# EAGLE library part DIN8 (library ScouseTom_New)
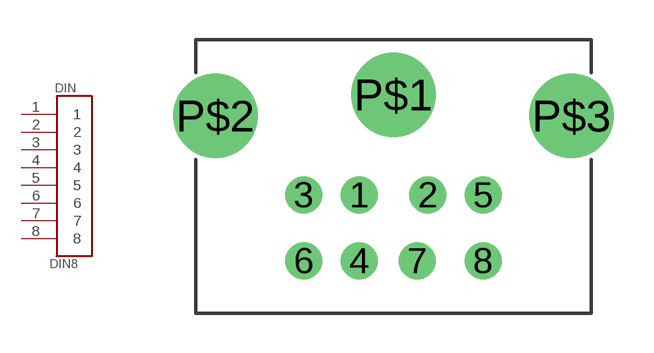
[diagram p7: symbol with the pads of DIN8; footprint DIN8]

Designator prefix DIN

## DIN8  [DIN8]
1  1
2  2
3  3
4  4
5  5
6  6
7  7
8  8

## Footprint DIN8 (pad centres in mm)
drill 0.9: 1 -1.3,-3.8; 2 1.3,-3.8; 3 -3.4,-3.8; 4 -1.3,-6.3; 5 3.4,-3.8; 6 -3.4,-6.3; 7 0.9,-6.3; 8 3.4,-6.3
drill 2.2: P$1 0,0; P$2 -6.75,-0.8; P$3 6.75,-0.8